# EAGLE library part XCV1600E_FG860 (library xilinx-xcv)
xcv1600e_fg860 edit this description Auto generated by make-symbol-device-package-bsdl.ulp Rev. 26 Source: xcv1600e_fg860.bsd
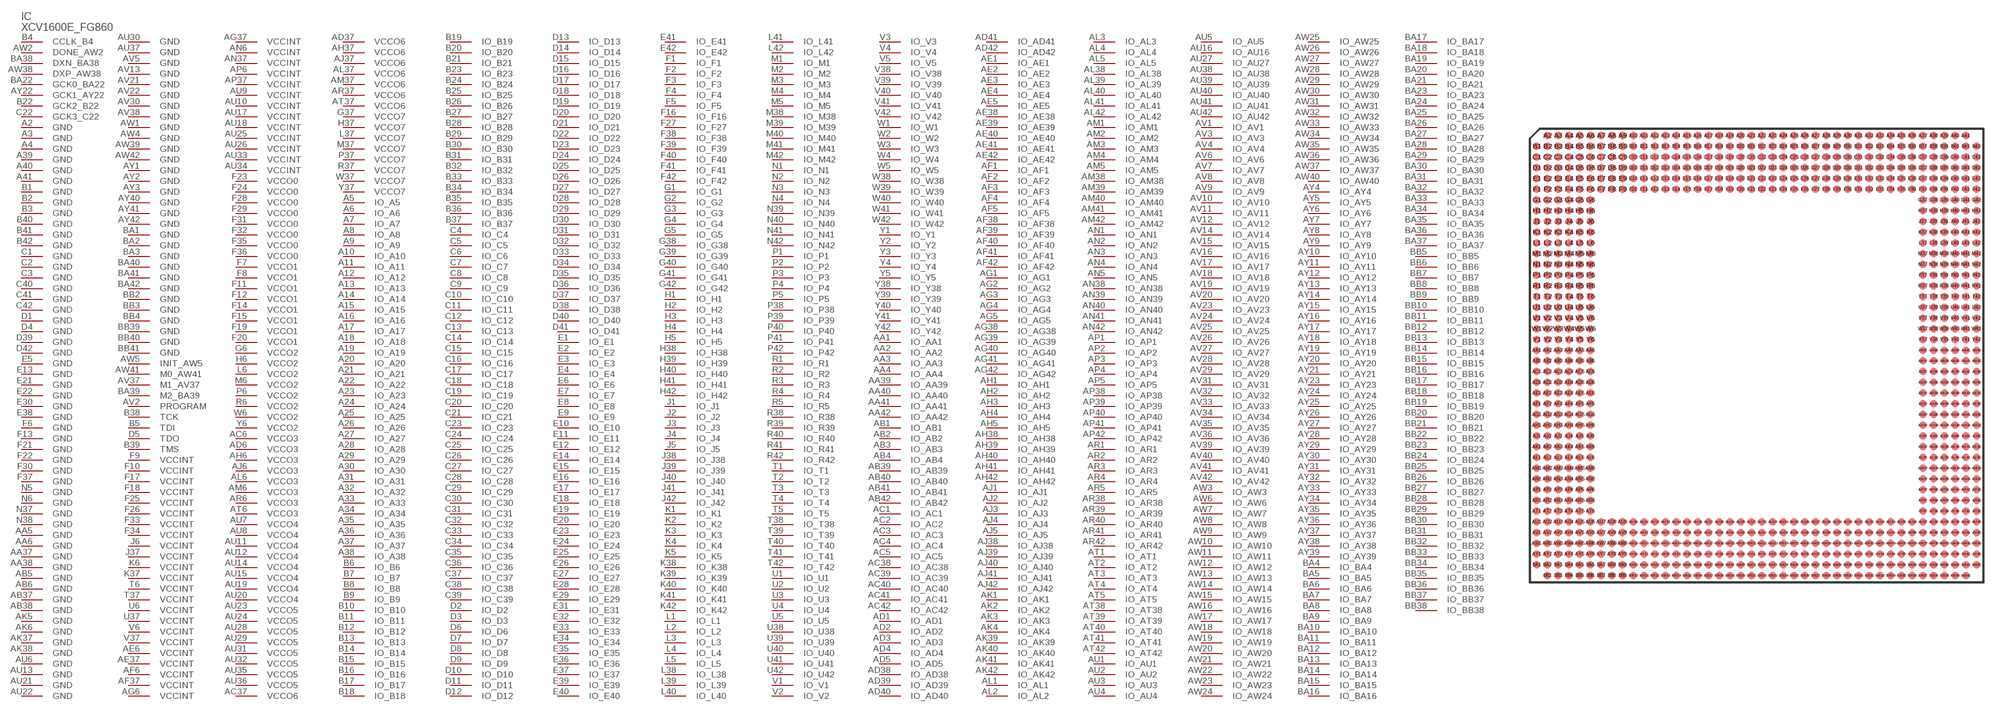
[diagram p42: symbol with the pads of FG860; footprint FG860]

Designator prefix IC

## XCV1600E_FG860  [FG860]
A2  GND  pwr
A3  GND  pwr
A4  GND  pwr
A5  IO_A5
A6  IO_A6
A7  IO_A7
A8  IO_A8
A9  IO_A9
A10  IO_A10
A11  IO_A11
A12  IO_A12
A13  IO_A13
A14  IO_A14
A15  IO_A15
A16  IO_A16
A17  IO_A17
A18  IO_A18
A19  IO_A19
A20  IO_A20
A21  IO_A21
A22  IO_A22
A23  IO_A23
A24  IO_A24
A25  IO_A25
A26  IO_A26
A27  IO_A27
A28  IO_A28
A29  IO_A29
A30  IO_A30
A31  IO_A31
A32  IO_A32
A33  IO_A33
A34  IO_A34
A35  IO_A35
A36  IO_A36
A37  IO_A37
A38  IO_A38
A39  GND  pwr
A40  GND  pwr
A41  GND  pwr
AA1  IO_AA1
AA2  IO_AA2
AA3  IO_AA3
AA4  IO_AA4
AA5  GND  pwr
AA6  GND  pwr
AA37  GND  pwr
AA38  GND  pwr
AA39  IO_AA39
AA40  IO_AA40
AA41  IO_AA41
AA42  IO_AA42
AB1  IO_AB1
AB2  IO_AB2
AB3  IO_AB3
AB4  IO_AB4
AB5  GND  pwr
AB6  GND  pwr
AB37  GND  pwr
AB38  GND  pwr
AB39  IO_AB39
AB40  IO_AB40
AB41  IO_AB41
AB42  IO_AB42
AC1  IO_AC1
AC2  IO_AC2
AC3  IO_AC3
AC4  IO_AC4
AC5  IO_AC5
AC6  VCCO3  pwr
AC37  VCCO6  pwr
AC38  IO_AC38
AC39  IO_AC39
AC40  IO_AC40
AC41  IO_AC41
AC42  IO_AC42
AD1  IO_AD1
AD2  IO_AD2
AD3  IO_AD3
AD4  IO_AD4
AD5  IO_AD5
AD6  VCCO3  pwr
AD37  VCCO6  pwr
AD38  IO_AD38
AD39  IO_AD39
AD40  IO_AD40
AD41  IO_AD41
AD42  IO_AD42
AE1  IO_AE1
AE2  IO_AE2
AE3  IO_AE3
AE4  IO_AE4
AE5  IO_AE5
AE6  VCCINT  pwr
AE37  VCCINT  pwr
AE38  IO_AE38
AE39  IO_AE39
AE40  IO_AE40
AE41  IO_AE41
AE42  IO_AE42
AF1  IO_AF1
AF2  IO_AF2
AF3  IO_AF3
AF4  IO_AF4
AF5  IO_AF5
AF6  VCCINT  pwr
AF37  VCCINT  pwr
AF38  IO_AF38
AF39  IO_AF39
AF40  IO_AF40
AF41  IO_AF41
AF42  IO_AF42
AG1  IO_AG1
AG2  IO_AG2
AG3  IO_AG3
AG4  IO_AG4
AG5  IO_AG5
AG6  VCCINT  pwr
AG37  VCCINT  pwr
AG38  IO_AG38
AG39  IO_AG39
AG40  IO_AG40
AG41  IO_AG41
AG42  IO_AG42
AH1  IO_AH1
AH2  IO_AH2
AH3  IO_AH3
AH4  IO_AH4
AH5  IO_AH5
AH6  VCCO3  pwr
AH37  VCCO6  pwr
AH38  IO_AH38
AH39  IO_AH39
AH40  IO_AH40
AH41  IO_AH41
AH42  IO_AH42
AJ1  IO_AJ1
AJ2  IO_AJ2
AJ3  IO_AJ3
AJ4  IO_AJ4
AJ5  IO_AJ5
AJ6  VCCO3  pwr
AJ37  VCCO6  pwr
AJ38  IO_AJ38
AJ39  IO_AJ39
AJ40  IO_AJ40
AJ41  IO_AJ41
AJ42  IO_AJ42
AK1  IO_AK1
AK2  IO_AK2
AK3  IO_AK3
AK4  IO_AK4
AK5  GND  pwr
AK6  GND  pwr
AK37  GND  pwr
AK38  GND  pwr
AK39  IO_AK39
AK40  IO_AK40
AK41  IO_AK41
AK42  IO_AK42
AL1  IO_AL1
AL2  IO_AL2
AL3  IO_AL3
AL4  IO_AL4
AL5  IO_AL5
AL6  VCCO3  pwr
AL37  VCCO6  pwr
AL38  IO_AL38
AL39  IO_AL39
AL40  IO_AL40
AL41  IO_AL41
AL42  IO_AL42
AM1  IO_AM1
AM2  IO_AM2
AM3  IO_AM3
AM4  IO_AM4
AM5  IO_AM5
AM6  VCCO3  pwr
AM37  VCCO6  pwr
AM38  IO_AM38
AM39  IO_AM39
AM40  IO_AM40
AM41  IO_AM41
AM42  IO_AM42
AN1  IO_AN1
AN2  IO_AN2
AN3  IO_AN3
AN4  IO_AN4
AN5  IO_AN5
AN6  VCCINT  pwr
AN37  VCCINT  pwr
AN38  IO_AN38
AN39  IO_AN39
AN40  IO_AN40
AN41  IO_AN41
AN42  IO_AN42
AP1  IO_AP1
AP2  IO_AP2
AP3  IO_AP3
AP4  IO_AP4
AP5  IO_AP5
AP6  VCCINT  pwr
AP37  VCCINT  pwr
AP38  IO_AP38
AP39  IO_AP39
AP40  IO_AP40
AP41  IO_AP41
AP42  IO_AP42
AR1  IO_AR1
AR2  IO_AR2
AR3  IO_AR3
AR4  IO_AR4
AR5  IO_AR5
AR6  VCCO3  pwr
AR37  VCCO6  pwr
AR38  IO_AR38
AR39  IO_AR39
AR40  IO_AR40
AR41  IO_AR41
AR42  IO_AR42
AT1  IO_AT1
AT2  IO_AT2
AT3  IO_AT3
AT4  IO_AT4
AT5  IO_AT5
AT6  VCCO3  pwr
AT37  VCCO6  pwr
AT38  IO_AT38
AT39  IO_AT39
AT40  IO_AT40
AT41  IO_AT41
AT42  IO_AT42
AU1  IO_AU1
AU2  IO_AU2
AU3  IO_AU3
AU4  IO_AU4
AU5  IO_AU5
AU6  GND  pwr
AU7  VCCO4  pwr
AU8  VCCO4  pwr
AU9  VCCINT  pwr
AU10  VCCINT  pwr
AU11  VCCO4  pwr
AU12  VCCO4  pwr
AU13  GND  pwr
AU14  VCCO4  pwr
AU15  VCCO4  pwr
AU16  IO_AU16
AU17  VCCINT  pwr
AU18  VCCINT  pwr
AU19  VCCO4  pwr
AU20  VCCO4  pwr
AU21  GND  pwr
AU22  GND  pwr
AU23  VCCO5  pwr
AU24  VCCO5  pwr
AU25  VCCINT  pwr
AU26  VCCINT  pwr
AU27  IO_AU27
AU28  VCCO5  pwr
AU29  VCCO5  pwr
AU30  GND  pwr
AU31  VCCO5  pwr
AU32  VCCO5  pwr
AU33  VCCINT  pwr
AU34  VCCINT  pwr
AU35  VCCO5  pwr
AU36  VCCO5  pwr
AU37  GND  pwr
AU38  IO_AU38
AU39  IO_AU39
AU40  IO_AU40
AU41  IO_AU41
AU42  IO_AU42
AV1  IO_AV1
AV2  PROGRAM  in
AV3  IO_AV3
AV4  IO_AV4
AV5  GND  pwr
AV6  IO_AV6
AV7  IO_AV7
AV8  IO_AV8
AV9  IO_AV9
AV10  IO_AV10
AV11  IO_AV11
AV12  IO_AV12
AV13  GND  pwr
AV14  IO_AV14
AV15  IO_AV15
AV16  IO_AV16
AV17  IO_AV17
AV18  IO_AV18
AV19  IO_AV19
AV20  IO_AV20
AV21  GND  pwr
AV22  GND  pwr
AV23  IO_AV23
AV24  IO_AV24
AV25  IO_AV25
AV26  IO_AV26
AV27  IO_AV27
AV28  IO_AV28
AV29  IO_AV29
AV30  GND  pwr
AV31  IO_AV31
AV32  IO_AV32
AV33  IO_AV33
AV34  IO_AV34
AV35  IO_AV35
AV36  IO_AV36
AV37  M1_AV37  in
AV38  GND  pwr
AV39  IO_AV39
AV40  IO_AV40
AV41  IO_AV41
AV42  IO_AV42
AW1  GND  pwr
AW2  DONE_AW2
AW3  IO_AW3
AW4  GND  pwr
AW5  INIT_AW5
AW6  IO_AW6
AW7  IO_AW7
AW8  IO_AW8
AW9  IO_AW9
AW10  IO_AW10
AW11  IO_AW11
AW12  IO_AW12
AW13  IO_AW13
AW14  IO_AW14
AW15  IO_AW15
AW16  IO_AW16
AW17  IO_AW17
AW18  IO_AW18
AW19  IO_AW19
AW20  IO_AW20
AW21  IO_AW21
AW22  IO_AW22
AW23  IO_AW23
AW24  IO_AW24
AW25  IO_AW25
AW26  IO_AW26
AW27  IO_AW27
AW28  IO_AW28
AW29  IO_AW29
AW30  IO_AW30
AW31  IO_AW31
AW32  IO_AW32
AW33  IO_AW33
AW34  IO_AW34
AW35  IO_AW35
AW36  IO_AW36
AW37  IO_AW37
AW38  DXP_AW38  pas
AW39  GND  pwr
AW40  IO_AW40
AW41  M0_AW41  in
AW42  GND  pwr
AY1  GND  pwr
AY2  GND  pwr
AY3  GND  pwr
AY4  IO_AY4
AY5  IO_AY5
AY6  IO_AY6
AY7  IO_AY7
AY8  IO_AY8
AY9  IO_AY9
AY10  IO_AY10
AY11  IO_AY11
AY12  IO_AY12
AY13  IO_AY13
AY14  IO_AY14
AY15  IO_AY15
AY16  IO_AY16
AY17  IO_AY17
AY18  IO_AY18
AY19  IO_AY19
AY20  IO_AY20
AY21  IO_AY21
AY22  GCK1_AY22  in
AY23  IO_AY23
AY24  IO_AY24
AY25  IO_AY25
AY26  IO_AY26
AY27  IO_AY27
AY28  IO_AY28
AY29  IO_AY29
AY30  IO_AY30
AY31  IO_AY31
AY32  IO_AY32
AY33  IO_AY33
AY34  IO_AY34
AY35  IO_AY35
AY36  IO_AY36
AY37  IO_AY37
AY38  IO_AY38
AY39  IO_AY39
AY40  GND  pwr
AY41  GND  pwr
AY42  GND  pwr
B1  GND  pwr
B2  GND  pwr
B3  GND  pwr
B4  CCLK_B4
B5  TDI  in
B6  IO_B6
B7  IO_B7
B8  IO_B8
B9  IO_B9
B10  IO_B10
B11  IO_B11
B12  IO_B12
B13  IO_B13
B14  IO_B14
B15  IO_B15
B16  IO_B16
B17  IO_B17
B18  IO_B18
B19  IO_B19
B20  IO_B20
B21  IO_B21
B22  GCK2_B22  in
B23  IO_B23
B24  IO_B24
B25  IO_B25
B26  IO_B26
B27  IO_B27
B28  IO_B28
B29  IO_B29
B30  IO_B30
B31  IO_B31
B32  IO_B32
B33  IO_B33
B34  IO_B34
B35  IO_B35
B36  IO_B36
B37  IO_B37
B38  TCK  in
B39  TMS  in
B40  GND  pwr
B41  GND  pwr
B42  GND  pwr
BA1  GND  pwr
BA2  GND  pwr
BA3  GND  pwr
BA4  IO_BA4
BA5  IO_BA5
BA6  IO_BA6
BA7  IO_BA7
BA8  IO_BA8
BA9  IO_BA9
BA10  IO_BA10
BA11  IO_BA11
BA12  IO_BA12
BA13  IO_BA13
BA14  IO_BA14
BA15  IO_BA15
BA16  IO_BA16
BA17  IO_BA17
BA18  IO_BA18
BA19  IO_BA19
BA20  IO_BA20
BA21  IO_BA21
BA22  GCK0_BA22  in
BA23  IO_BA23
BA24  IO_BA24
BA25  IO_BA25
BA26  IO_BA26
BA27  IO_BA27
BA28  IO_BA28
BA29  IO_BA29
BA30  IO_BA30
BA31  IO_BA31
BA32  IO_BA32
BA33  IO_BA33
BA34  IO_BA34
BA35  IO_BA35
BA36  IO_BA36
BA37  IO_BA37
BA38  DXN_BA38  pas
BA39  M2_BA39  in
BA40  GND  pwr
BA41  GND  pwr
BA42  GND  pwr
BB2  GND  pwr
BB3  GND  pwr
BB4  GND  pwr
BB5  IO_BB5
BB6  IO_BB6
BB7  IO_BB7
BB8  IO_BB8
BB9  IO_BB9
BB10  IO_BB10
BB11  IO_BB11
BB12  IO_BB12
BB13  IO_BB13
BB14  IO_BB14
BB15  IO_BB15
BB16  IO_BB16
BB17  IO_BB17
BB18  IO_BB18
BB19  IO_BB19
BB20  IO_BB20
BB21  IO_BB21
BB22  IO_BB22
BB23  IO_BB23
BB24  IO_BB24
BB25  IO_BB25
BB26  IO_BB26
BB27  IO_BB27
BB28  IO_BB28
BB29  IO_BB29
BB30  IO_BB30
BB31  IO_BB31
BB32  IO_BB32
BB33  IO_BB33
BB34  IO_BB34
BB35  IO_BB35
BB36  IO_BB36
BB37  IO_BB37
BB38  IO_BB38
BB39  GND  pwr
BB40  GND  pwr
BB41  GND  pwr
C1  GND  pwr
C2  GND  pwr
C3  GND  pwr
C4  IO_C4
C5  IO_C5
C6  IO_C6
C7  IO_C7
C8  IO_C8
C9  IO_C9
C10  IO_C10
C11  IO_C11
C12  IO_C12
C13  IO_C13
C14  IO_C14
C15  IO_C15
C16  IO_C16
C17  IO_C17
C18  IO_C18
C19  IO_C19
C20  IO_C20
C21  IO_C21
C22  GCK3_C22  in
C23  IO_C23
C24  IO_C24
C25  IO_C25
C26  IO_C26
C27  IO_C27
C28  IO_C28
C29  IO_C29
C30  IO_C30
C31  IO_C31
C32  IO_C32
C33  IO_C33
C34  IO_C34
C35  IO_C35
C36  IO_C36
C37  IO_C37
C38  IO_C38
C39  IO_C39
C40  GND  pwr
C41  GND  pwr
C42  GND  pwr
D1  GND  pwr
D2  IO_D2
D3  IO_D3
D4  GND  pwr
D5  TDO  out
D6  IO_D6
D7  IO_D7
D8  IO_D8
D9  IO_D9
D10  IO_D10
D11  IO_D11
D12  IO_D12
D13  IO_D13
D14  IO_D14
D15  IO_D15
D16  IO_D16
D17  IO_D17
D18  IO_D18
D19  IO_D19
D20  IO_D20
D21  IO_D21
D22  IO_D22
D23  IO_D23
D24  IO_D24
D25  IO_D25
D26  IO_D26
D27  IO_D27
D28  IO_D28
D29  IO_D29
D30  IO_D30
D31  IO_D31
D32  IO_D32
D33  IO_D33
D34  IO_D34
D35  IO_D35
D36  IO_D36
D37  IO_D37
D38  IO_D38
D39  GND  pwr
D40  IO_D40
D41  IO_D41
D42  GND  pwr
E1  IO_E1
E2  IO_E2
E3  IO_E3
E4  IO_E4
E5  GND  pwr
E6  IO_E6
E7  IO_E7
E8  IO_E8
E9  IO_E9
E10  IO_E10
E11  IO_E11
E12  IO_E12
E13  GND  pwr
E14  IO_E14
E15  IO_E15
E16  IO_E16
E17  IO_E17
E18  IO_E18
E19  IO_E19
E20  IO_E20
E21  GND  pwr
E22  GND  pwr
E23  IO_E23
E24  IO_E24
E25  IO_E25
E26  IO_E26
E27  IO_E27
E28  IO_E28
E29  IO_E29
E30  GND  pwr
E31  IO_E31
E32  IO_E32
E33  IO_E33
E34  IO_E34
E35  IO_E35
E36  IO_E36
E37  IO_E37
E38  GND  pwr
E39  IO_E39
E40  IO_E40
E41  IO_E41
E42  IO_E42
F1  IO_F1
F2  IO_F2
F3  IO_F3
F4  IO_F4
F5  IO_F5
F6  GND  pwr
F7  VCCO1  pwr
F8  VCCO1  pwr
F9  VCCINT  pwr
F10  VCCINT  pwr
F11  VCCO1  pwr
F12  VCCO1  pwr
F13  GND  pwr
F14  VCCO1  pwr
F15  VCCO1  pwr
F16  IO_F16
F17  VCCINT  pwr
F18  VCCINT  pwr
F19  VCCO1  pwr
F20  VCCO1  pwr
F21  GND  pwr
F22  GND  pwr
F23  VCCO0  pwr
F24  VCCO0  pwr
F25  VCCINT  pwr
F26  VCCINT  pwr
F27  IO_F27
F28  VCCO0  pwr
F29  VCCO0  pwr
F30  GND  pwr
F31  VCCO0  pwr
F32  VCCO0  pwr
F33  VCCINT  pwr
F34  VCCINT  pwr
F35  VCCO0  pwr
F36  VCCO0  pwr
F37  GND  pwr
F38  IO_F38
F39  IO_F39
F40  IO_F40
F41  IO_F41
F42  IO_F42
G1  IO_G1
G2  IO_G2
G3  IO_G3
G4  IO_G4
G5  IO_G5
G6  VCCO2  pwr
G37  VCCO7  pwr
G38  IO_G38
G39  IO_G39
G40  IO_G40
G41  IO_G41
G42  IO_G42
H1  IO_H1
H2  IO_H2
H3  IO_H3
H4  IO_H4
H5  IO_H5
H6  VCCO2  pwr
H37  VCCO7  pwr
H38  IO_H38
H39  IO_H39
H40  IO_H40
H41  IO_H41
H42  IO_H42
J1  IO_J1
J2  IO_J2
J3  IO_J3
J4  IO_J4
J5  IO_J5
J6  VCCINT  pwr
J37  VCCINT  pwr
J38  IO_J38
J39  IO_J39
J40  IO_J40
J41  IO_J41
J42  IO_J42
K1  IO_K1
K2  IO_K2
K3  IO_K3
K4  IO_K4
K5  IO_K5
K6  VCCINT  pwr
K37  VCCINT  pwr
K38  IO_K38
K39  IO_K39
K40  IO_K40
K41  IO_K41
K42  IO_K42
L1  IO_L1
L2  IO_L2
L3  IO_L3
L4  IO_L4
L5  IO_L5
L6  VCCO2  pwr
L37  VCCO7  pwr
L38  IO_L38
L39  IO_L39
L40  IO_L40
L41  IO_L41
L42  IO_L42
M1  IO_M1
M2  IO_M2
M3  IO_M3
M4  IO_M4
M5  IO_M5
M6  VCCO2  pwr
M37  VCCO7  pwr
M38  IO_M38
M39  IO_M39
M40  IO_M40
M41  IO_M41
M42  IO_M42
N1  IO_N1
N2  IO_N2
N3  IO_N3
N4  IO_N4
N5  GND  pwr
N6  GND  pwr
N37  GND  pwr
N38  GND  pwr
N39  IO_N39
N40  IO_N40
N41  IO_N41
N42  IO_N42
P1  IO_P1
P2  IO_P2
P3  IO_P3
P4  IO_P4
P5  IO_P5
P6  VCCO2  pwr
P37  VCCO7  pwr
P38  IO_P38
P39  IO_P39
P40  IO_P40
P41  IO_P41
P42  IO_P42
R1  IO_R1
R2  IO_R2
R3  IO_R3
R4  IO_R4
R5  IO_R5
R6  VCCO2  pwr
R37  VCCO7  pwr
R38  IO_R38
R39  IO_R39
R40  IO_R40
R41  IO_R41
R42  IO_R42
T1  IO_T1
T2  IO_T2
T3  IO_T3
T4  IO_T4
T5  IO_T5
T6  VCCINT  pwr
T37  VCCINT  pwr
T38  IO_T38
T39  IO_T39
T40  IO_T40
T41  IO_T41
T42  IO_T42
U1  IO_U1
U2  IO_U2
U3  IO_U3
U4  IO_U4
U5  IO_U5
U6  VCCINT  pwr
U37  VCCINT  pwr
U38  IO_U38
U39  IO_U39
U40  IO_U40
U41  IO_U41
U42  IO_U42
V1  IO_V1
V2  IO_V2
V3  IO_V3
V4  IO_V4
V5  IO_V5
V6  VCCINT  pwr
V37  VCCINT  pwr
V38  IO_V38
V39  IO_V39
V40  IO_V40
V41  IO_V41
V42  IO_V42
W1  IO_W1
W2  IO_W2
W3  IO_W3
W4  IO_W4
W5  IO_W5
W6  VCCO2  pwr
W37  VCCO7  pwr
W38  IO_W38
W39  IO_W39
W40  IO_W40
W41  IO_W41
W42  IO_W42
Y1  IO_Y1
Y2  IO_Y2
Y3  IO_Y3
Y4  IO_Y4
Y5  IO_Y5
Y6  VCCO2  pwr
Y37  VCCO7  pwr
Y38  IO_Y38
Y39  IO_Y39
Y40  IO_Y40
Y41  IO_Y41
Y42  IO_Y42

## Footprint FG860 (pad centres in mm)
xcv1000e_fg860_1532 edit this description Auto generated by make-symbol-device-package-bsdl.ulp Rev. 26 Source: xcv1000e_fg860_1532.bsd
smd 0.7 x 0.7: A2 -19.5,20.5; A3 -18.5,20.5; A4 -17.5,20.5; A5 -16.5,20.5; A6 -15.5,20.5; A7 -14.5,20.5; A8 -13.5,20.5; A9 -12.5,20.5; A10 -11.5,20.5; A11 -10.5,20.5; A12 -9.5,20.5; A13 -8.5,20.5; A14 -7.5,20.5; A15 -6.5,20.5; A16 -5.5,20.5; A17 -4.5,20.5; A18 -3.5,20.5; A19 -2.5,20.5; A20 -1.5,20.5; A21 -0.5,20.5; A22 0.5,20.5; A23 1.5,20.5; A24 2.5,20.5; A25 3.5,20.5; A26 4.5,20.5; A27 5.5,20.5; A28 6.5,20.5; A29 7.5,20.5; A30 8.5,20.5; A31 9.5,20.5; A32 10.5,20.5; A33 11.5,20.5; A34 12.5,20.5; A35 13.5,20.5; A36 14.5,20.5; A37 15.5,20.5; A38 16.5,20.5; A39 17.5,20.5; A40 18.5,20.5; A41 19.5,20.5; AA1 -20.5,0.5; AA2 -19.5,0.5; AA3 -18.5,0.5; AA4 -17.5,0.5; AA5 -16.5,0.5; AA6 -15.5,0.5; AA37 15.5,0.5; AA38 16.5,0.5; AA39 17.5,0.5; AA40 18.5,0.5; AA41 19.5,0.5; AA42 20.5,0.5; AB1 -20.5,-0.5; AB2 -19.5,-0.5; AB3 -18.5,-0.5; AB4 -17.5,-0.5; AB5 -16.5,-0.5; AB6 -15.5,-0.5; AB37 15.5,-0.5; AB38 16.5,-0.5; AB39 17.5,-0.5; AB40 18.5,-0.5; AB41 19.5,-0.5; AB42 20.5,-0.5; AC1 -20.5,-1.5; AC2 -19.5,-1.5; AC3 -18.5,-1.5; AC4 -17.5,-1.5; AC5 -16.5,-1.5; AC6 -15.5,-1.5; AC37 15.5,-1.5; AC38 16.5,-1.5; AC39 17.5,-1.5; AC40 18.5,-1.5; AC41 19.5,-1.5; AC42 20.5,-1.5; AD1 -20.5,-2.5; AD2 -19.5,-2.5; AD3 -18.5,-2.5; AD4 -17.5,-2.5; AD5 -16.5,-2.5; AD6 -15.5,-2.5; AD37 15.5,-2.5; AD38 16.5,-2.5; AD39 17.5,-2.5; AD40 18.5,-2.5; AD41 19.5,-2.5; AD42 20.5,-2.5; AE1 -20.5,-3.5; AE2 -19.5,-3.5; AE3 -18.5,-3.5; AE4 -17.5,-3.5; AE5 -16.5,-3.5; AE6 -15.5,-3.5; AE37 15.5,-3.5; AE38 16.5,-3.5; AE39 17.5,-3.5; AE40 18.5,-3.5; AE41 19.5,-3.5; AE42 20.5,-3.5; AF1 -20.5,-4.5; AF2 -19.5,-4.5; AF3 -18.5,-4.5; AF4 -17.5,-4.5; AF5 -16.5,-4.5; AF6 -15.5,-4.5; AF37 15.5,-4.5; AF38 16.5,-4.5; AF39 17.5,-4.5; AF40 18.5,-4.5; AF41 19.5,-4.5; AF42 20.5,-4.5; AG1 -20.5,-5.5; AG2 -19.5,-5.5; AG3 -18.5,-5.5; AG4 -17.5,-5.5; AG5 -16.5,-5.5; AG6 -15.5,-5.5; AG37 15.5,-5.5; AG38 16.5,-5.5; AG39 17.5,-5.5; AG40 18.5,-5.5; AG41 19.5,-5.5; AG42 20.5,-5.5; AH1 -20.5,-6.5; AH2 -19.5,-6.5; AH3 -18.5,-6.5; AH4 -17.5,-6.5; AH5 -16.5,-6.5; AH6 -15.5,-6.5; AH37 15.5,-6.5; AH38 16.5,-6.5; AH39 17.5,-6.5; AH40 18.5,-6.5; AH41 19.5,-6.5; AH42 20.5,-6.5; AJ1 -20.5,-7.5; AJ2 -19.5,-7.5; AJ3 -18.5,-7.5; AJ4 -17.5,-7.5; AJ5 -16.5,-7.5; AJ6 -15.5,-7.5; AJ37 15.5,-7.5; AJ38 16.5,-7.5; AJ39 17.5,-7.5; AJ40 18.5,-7.5; AJ41 19.5,-7.5; AJ42 20.5,-7.5; AK1 -20.5,-8.5; AK2 -19.5,-8.5; AK3 -18.5,-8.5; AK4 -17.5,-8.5; AK5 -16.5,-8.5; AK6 -15.5,-8.5; AK37 15.5,-8.5; AK38 16.5,-8.5; AK39 17.5,-8.5; AK40 18.5,-8.5; AK41 19.5,-8.5; AK42 20.5,-8.5; AL1 -20.5,-9.5; AL2 -19.5,-9.5; AL3 -18.5,-9.5; AL4 -17.5,-9.5; AL5 -16.5,-9.5; AL6 -15.5,-9.5; AL37 15.5,-9.5; AL38 16.5,-9.5; AL39 17.5,-9.5; AL40 18.5,-9.5; AL41 19.5,-9.5; AL42 20.5,-9.5; AM1 -20.5,-10.5; AM2 -19.5,-10.5; AM3 -18.5,-10.5; AM4 -17.5,-10.5; AM5 -16.5,-10.5; AM6 -15.5,-10.5; AM37 15.5,-10.5; AM38 16.5,-10.5; AM39 17.5,-10.5; AM40 18.5,-10.5; AM41 19.5,-10.5; AM42 20.5,-10.5; AN1 -20.5,-11.5; AN2 -19.5,-11.5; AN3 -18.5,-11.5; AN4 -17.5,-11.5; AN5 -16.5,-11.5; AN6 -15.5,-11.5; AN37 15.5,-11.5; AN38 16.5,-11.5; AN39 17.5,-11.5; AN40 18.5,-11.5; AN41 19.5,-11.5; AN42 20.5,-11.5; AP1 -20.5,-12.5; AP2 -19.5,-12.5; AP3 -18.5,-12.5; AP4 -17.5,-12.5; AP5 -16.5,-12.5; AP6 -15.5,-12.5; AP37 15.5,-12.5; AP38 16.5,-12.5; AP39 17.5,-12.5; AP40 18.5,-12.5; AP41 19.5,-12.5; AP42 20.5,-12.5; AR1 -20.5,-13.5; AR2 -19.5,-13.5; AR3 -18.5,-13.5; AR4 -17.5,-13.5; AR5 -16.5,-13.5; AR6 -15.5,-13.5; AR37 15.5,-13.5; AR38 16.5,-13.5; AR39 17.5,-13.5; AR40 18.5,-13.5; AR41 19.5,-13.5; AR42 20.5,-13.5; AT1 -20.5,-14.5; AT2 -19.5,-14.5; AT3 -18.5,-14.5; AT4 -17.5,-14.5; AT5 -16.5,-14.5; AT6 -15.5,-14.5; AT37 15.5,-14.5; AT38 16.5,-14.5; AT39 17.5,-14.5; AT40 18.5,-14.5; AT41 19.5,-14.5; AT42 20.5,-14.5; AU1 -20.5,-15.5; AU2 -19.5,-15.5; AU3 -18.5,-15.5; AU4 -17.5,-15.5; AU5 -16.5,-15.5; AU6 -15.5,-15.5; AU7 -14.5,-15.5; AU8 -13.5,-15.5; AU9 -12.5,-15.5; AU10 -11.5,-15.5; AU11 -10.5,-15.5; AU12 -9.5,-15.5; AU13 -8.5,-15.5; AU14 -7.5,-15.5; AU15 -6.5,-15.5; AU16 -5.5,-15.5; AU17 -4.5,-15.5; AU18 -3.5,-15.5; AU19 -2.5,-15.5; AU20 -1.5,-15.5; AU21 -0.5,-15.5; AU22 0.5,-15.5; AU23 1.5,-15.5; AU24 2.5,-15.5; AU25 3.5,-15.5; AU26 4.5,-15.5; AU27 5.5,-15.5; AU28 6.5,-15.5; AU29 7.5,-15.5; AU30 8.5,-15.5; AU31 9.5,-15.5; AU32 10.5,-15.5; AU33 11.5,-15.5; AU34 12.5,-15.5; AU35 13.5,-15.5; AU36 14.5,-15.5; AU37 15.5,-15.5; AU38 16.5,-15.5; AU39 17.5,-15.5; AU40 18.5,-15.5; AU41 19.5,-15.5; AU42 20.5,-15.5; AV1 -20.5,-16.5; AV2 -19.5,-16.5; AV3 -18.5,-16.5; AV4 -17.5,-16.5; AV5 -16.5,-16.5; AV6 -15.5,-16.5; AV7 -14.5,-16.5; AV8 -13.5,-16.5; AV9 -12.5,-16.5; AV10 -11.5,-16.5; AV11 -10.5,-16.5; AV12 -9.5,-16.5; AV13 -8.5,-16.5; AV14 -7.5,-16.5; AV15 -6.5,-16.5; AV16 -5.5,-16.5; AV17 -4.5,-16.5; AV18 -3.5,-16.5; AV19 -2.5,-16.5; AV20 -1.5,-16.5; AV21 -0.5,-16.5; AV22 0.5,-16.5; AV23 1.5,-16.5; AV24 2.5,-16.5; AV25 3.5,-16.5; AV26 4.5,-16.5; AV27 5.5,-16.5; AV28 6.5,-16.5; AV29 7.5,-16.5; AV30 8.5,-16.5; AV31 9.5,-16.5; AV32 10.5,-16.5; AV33 11.5,-16.5; AV34 12.5,-16.5; AV35 13.5,-16.5; AV36 14.5,-16.5; AV37 15.5,-16.5; AV38 16.5,-16.5; AV39 17.5,-16.5; AV40 18.5,-16.5; AV41 19.5,-16.5; AV42 20.5,-16.5; AW1 -20.5,-17.5; AW2 -19.5,-17.5; AW3 -18.5,-17.5; AW4 -17.5,-17.5; AW5 -16.5,-17.5; AW6 -15.5,-17.5; AW7 -14.5,-17.5; AW8 -13.5,-17.5; AW9 -12.5,-17.5; AW10 -11.5,-17.5; AW11 -10.5,-17.5; AW12 -9.5,-17.5; AW13 -8.5,-17.5; AW14 -7.5,-17.5; AW15 -6.5,-17.5; AW16 -5.5,-17.5; AW17 -4.5,-17.5; AW18 -3.5,-17.5; AW19 -2.5,-17.5; AW20 -1.5,-17.5; AW21 -0.5,-17.5; AW22 0.5,-17.5; AW23 1.5,-17.5; AW24 2.5,-17.5; AW25 3.5,-17.5; AW26 4.5,-17.5; AW27 5.5,-17.5; AW28 6.5,-17.5; AW29 7.5,-17.5; AW30 8.5,-17.5; AW31 9.5,-17.5; AW32 10.5,-17.5; AW33 11.5,-17.5; AW34 12.5,-17.5; AW35 13.5,-17.5; AW36 14.5,-17.5; AW37 15.5,-17.5; AW38 16.5,-17.5; AW39 17.5,-17.5; AW40 18.5,-17.5; AW41 19.5,-17.5; AW42 20.5,-17.5; AY1 -20.5,-18.5; AY2 -19.5,-18.5; AY3 -18.5,-18.5; AY4 -17.5,-18.5; AY5 -16.5,-18.5; AY6 -15.5,-18.5; AY7 -14.5,-18.5; AY8 -13.5,-18.5; AY9 -12.5,-18.5; AY10 -11.5,-18.5; AY11 -10.5,-18.5; AY12 -9.5,-18.5; AY13 -8.5,-18.5; AY14 -7.5,-18.5; AY15 -6.5,-18.5; AY16 -5.5,-18.5; AY17 -4.5,-18.5; AY18 -3.5,-18.5; AY19 -2.5,-18.5; AY20 -1.5,-18.5; AY21 -0.5,-18.5; AY22 0.5,-18.5; AY23 1.5,-18.5; AY24 2.5,-18.5; AY25 3.5,-18.5; AY26 4.5,-18.5; AY27 5.5,-18.5; AY28 6.5,-18.5; AY29 7.5,-18.5; AY30 8.5,-18.5; AY31 9.5,-18.5; AY32 10.5,-18.5; AY33 11.5,-18.5; AY34 12.5,-18.5; AY35 13.5,-18.5; AY36 14.5,-18.5; AY37 15.5,-18.5; AY38 16.5,-18.5; AY39 17.5,-18.5; AY40 18.5,-18.5; AY41 19.5,-18.5; AY42 20.5,-18.5; B1 -20.5,19.5; B2 -19.5,19.5; B3 -18.5,19.5; B4 -17.5,19.5; B5 -16.5,19.5; B6 -15.5,19.5; B7 -14.5,19.5; B8 -13.5,19.5; B9 -12.5,19.5; B10 -11.5,19.5; B11 -10.5,19.5; B12 -9.5,19.5; B13 -8.5,19.5; B14 -7.5,19.5; B15 -6.5,19.5; B16 -5.5,19.5; B17 -4.5,19.5; B18 -3.5,19.5; B19 -2.5,19.5; B20 -1.5,19.5; B21 -0.5,19.5; B22 0.5,19.5; B23 1.5,19.5; B24 2.5,19.5; B25 3.5,19.5; B26 4.5,19.5; B27 5.5,19.5; B28 6.5,19.5; B29 7.5,19.5; B30 8.5,19.5; B31 9.5,19.5; B32 10.5,19.5; B33 11.5,19.5; B34 12.5,19.5; B35 13.5,19.5; B36 14.5,19.5; B37 15.5,19.5; B38 16.5,19.5; B39 17.5,19.5; B40 18.5,19.5; B41 19.5,19.5; B42 20.5,19.5; BA1 -20.5,-19.5; BA2 -19.5,-19.5; BA3 -18.5,-19.5; BA4 -17.5,-19.5; BA5 -16.5,-19.5; BA6 -15.5,-19.5; BA7 -14.5,-19.5; BA8 -13.5,-19.5; BA9 -12.5,-19.5; BA10 -11.5,-19.5; BA11 -10.5,-19.5; BA12 -9.5,-19.5; BA13 -8.5,-19.5; BA14 -7.5,-19.5; BA15 -6.5,-19.5; BA16 -5.5,-19.5; BA17 -4.5,-19.5; BA18 -3.5,-19.5; BA19 -2.5,-19.5; BA20 -1.5,-19.5; BA21 -0.5,-19.5; BA22 0.5,-19.5; BA23 1.5,-19.5; BA24 2.5,-19.5; BA25 3.5,-19.5; BA26 4.5,-19.5; BA27 5.5,-19.5; BA28 6.5,-19.5; BA29 7.5,-19.5; BA30 8.5,-19.5; BA31 9.5,-19.5; BA32 10.5,-19.5; BA33 11.5,-19.5; BA34 12.5,-19.5; BA35 13.5,-19.5; BA36 14.5,-19.5; BA37 15.5,-19.5; BA38 16.5,-19.5; BA39 17.5,-19.5; BA40 18.5,-19.5; BA41 19.5,-19.5; BA42 20.5,-19.5; BB2 -19.5,-20.5; BB3 -18.5,-20.5; BB4 -17.5,-20.5; BB5 -16.5,-20.5; BB6 -15.5,-20.5; BB7 -14.5,-20.5; BB8 -13.5,-20.5; BB9 -12.5,-20.5; BB10 -11.5,-20.5; BB11 -10.5,-20.5; BB12 -9.5,-20.5; BB13 -8.5,-20.5; BB14 -7.5,-20.5; BB15 -6.5,-20.5; BB16 -5.5,-20.5; BB17 -4.5,-20.5; BB18 -3.5,-20.5; BB19 -2.5,-20.5; BB20 -1.5,-20.5; BB21 -0.5,-20.5; BB22 0.5,-20.5; BB23 1.5,-20.5; BB24 2.5,-20.5; BB25 3.5,-20.5; BB26 4.5,-20.5; BB27 5.5,-20.5; BB28 6.5,-20.5; BB29 7.5,-20.5; BB30 8.5,-20.5; BB31 9.5,-20.5; BB32 10.5,-20.5; BB33 11.5,-20.5; BB34 12.5,-20.5; BB35 13.5,-20.5; BB36 14.5,-20.5; BB37 15.5,-20.5; BB38 16.5,-20.5; BB39 17.5,-20.5; BB40 18.5,-20.5; BB41 19.5,-20.5; C1 -20.5,18.5; C2 -19.5,18.5; C3 -18.5,18.5; C4 -17.5,18.5; C5 -16.5,18.5; C6 -15.5,18.5; C7 -14.5,18.5; C8 -13.5,18.5; C9 -12.5,18.5; C10 -11.5,18.5; C11 -10.5,18.5; C12 -9.5,18.5; C13 -8.5,18.5; C14 -7.5,18.5; C15 -6.5,18.5; C16 -5.5,18.5; C17 -4.5,18.5; C18 -3.5,18.5; C19 -2.5,18.5; C20 -1.5,18.5; C21 -0.5,18.5; C22 0.5,18.5; C23 1.5,18.5; C24 2.5,18.5; C25 3.5,18.5; C26 4.5,18.5; C27 5.5,18.5; C28 6.5,18.5; C29 7.5,18.5; C30 8.5,18.5; C31 9.5,18.5; C32 10.5,18.5; C33 11.5,18.5; C34 12.5,18.5; C35 13.5,18.5; C36 14.5,18.5; C37 15.5,18.5; C38 16.5,18.5; C39 17.5,18.5; C40 18.5,18.5; C41 19.5,18.5; C42 20.5,18.5; D1 -20.5,17.5; D2 -19.5,17.5; D3 -18.5,17.5; D4 -17.5,17.5; D5 -16.5,17.5; D6 -15.5,17.5; D7 -14.5,17.5; D8 -13.5,17.5; D9 -12.5,17.5; D10 -11.5,17.5; D11 -10.5,17.5; D12 -9.5,17.5; D13 -8.5,17.5; D14 -7.5,17.5; D15 -6.5,17.5; D16 -5.5,17.5; D17 -4.5,17.5; D18 -3.5,17.5; D19 -2.5,17.5; D20 -1.5,17.5; D21 -0.5,17.5; D22 0.5,17.5; D23 1.5,17.5; D24 2.5,17.5; D25 3.5,17.5; D26 4.5,17.5; D27 5.5,17.5; D28 6.5,17.5; D29 7.5,17.5; D30 8.5,17.5; D31 9.5,17.5; D32 10.5,17.5; D33 11.5,17.5; D34 12.5,17.5; D35 13.5,17.5; D36 14.5,17.5; D37 15.5,17.5; D38 16.5,17.5; D39 17.5,17.5; D40 18.5,17.5; D41 19.5,17.5; D42 20.5,17.5; E1 -20.5,16.5; E2 -19.5,16.5; E3 -18.5,16.5; E4 -17.5,16.5; E5 -16.5,16.5; E6 -15.5,16.5; E7 -14.5,16.5; E8 -13.5,16.5; E9 -12.5,16.5; E10 -11.5,16.5; E11 -10.5,16.5; E12 -9.5,16.5; E13 -8.5,16.5; E14 -7.5,16.5; E15 -6.5,16.5; E16 -5.5,16.5; E17 -4.5,16.5; E18 -3.5,16.5; E19 -2.5,16.5; E20 -1.5,16.5; E21 -0.5,16.5; E22 0.5,16.5; E23 1.5,16.5; E24 2.5,16.5; E25 3.5,16.5; E26 4.5,16.5; E27 5.5,16.5; E28 6.5,16.5; E29 7.5,16.5; E30 8.5,16.5; E31 9.5,16.5; E32 10.5,16.5; E33 11.5,16.5; E34 12.5,16.5; E35 13.5,16.5; E36 14.5,16.5; E37 15.5,16.5; E38 16.5,16.5; E39 17.5,16.5; E40 18.5,16.5; E41 19.5,16.5; E42 20.5,16.5; F1 -20.5,15.5; F2 -19.5,15.5; F3 -18.5,15.5; F4 -17.5,15.5; F5 -16.5,15.5; F6 -15.5,15.5; F7 -14.5,15.5; F8 -13.5,15.5; F9 -12.5,15.5; F10 -11.5,15.5; F11 -10.5,15.5; F12 -9.5,15.5; F13 -8.5,15.5; F14 -7.5,15.5; F15 -6.5,15.5; F16 -5.5,15.5; F17 -4.5,15.5; F18 -3.5,15.5; F19 -2.5,15.5; F20 -1.5,15.5; F21 -0.5,15.5; F22 0.5,15.5; F23 1.5,15.5; F24 2.5,15.5; F25 3.5,15.5; F26 4.5,15.5; F27 5.5,15.5; F28 6.5,15.5; F29 7.5,15.5; F30 8.5,15.5; F31 9.5,15.5; F32 10.5,15.5; F33 11.5,15.5; F34 12.5,15.5; F35 13.5,15.5; F36 14.5,15.5; F37 15.5,15.5; F38 16.5,15.5; F39 17.5,15.5; F40 18.5,15.5; F41 19.5,15.5; F42 20.5,15.5; G1 -20.5,14.5; G2 -19.5,14.5; G3 -18.5,14.5; G4 -17.5,14.5; G5 -16.5,14.5; G6 -15.5,14.5; G37 15.5,14.5; G38 16.5,14.5; G39 17.5,14.5; G40 18.5,14.5; G41 19.5,14.5; G42 20.5,14.5; H1 -20.5,13.5; H2 -19.5,13.5; H3 -18.5,13.5; H4 -17.5,13.5; H5 -16.5,13.5; H6 -15.5,13.5; H37 15.5,13.5; H38 16.5,13.5; H39 17.5,13.5; H40 18.5,13.5; H41 19.5,13.5; H42 20.5,13.5; J1 -20.5,12.5; J2 -19.5,12.5; J3 -18.5,12.5; J4 -17.5,12.5; J5 -16.5,12.5; J6 -15.5,12.5; J37 15.5,12.5; J38 16.5,12.5; J39 17.5,12.5; J40 18.5,12.5; J41 19.5,12.5; J42 20.5,12.5; K1 -20.5,11.5; K2 -19.5,11.5; K3 -18.5,11.5; K4 -17.5,11.5; K5 -16.5,11.5; K6 -15.5,11.5; K37 15.5,11.5; K38 16.5,11.5; K39 17.5,11.5; K40 18.5,11.5; K41 19.5,11.5; K42 20.5,11.5; L1 -20.5,10.5; L2 -19.5,10.5; L3 -18.5,10.5; L4 -17.5,10.5; L5 -16.5,10.5; L6 -15.5,10.5; L37 15.5,10.5; L38 16.5,10.5; L39 17.5,10.5; L40 18.5,10.5; L41 19.5,10.5; L42 20.5,10.5; M1 -20.5,9.5; M2 -19.5,9.5; M3 -18.5,9.5; M4 -17.5,9.5; M5 -16.5,9.5; M6 -15.5,9.5; M37 15.5,9.5; M38 16.5,9.5; M39 17.5,9.5; M40 18.5,9.5; M41 19.5,9.5; M42 20.5,9.5; N1 -20.5,8.5; N2 -19.5,8.5; N3 -18.5,8.5; N4 -17.5,8.5; N5 -16.5,8.5; N6 -15.5,8.5; N37 15.5,8.5; N38 16.5,8.5; N39 17.5,8.5; N40 18.5,8.5; N41 19.5,8.5; N42 20.5,8.5; P1 -20.5,7.5; P2 -19.5,7.5; P3 -18.5,7.5; P4 -17.5,7.5; P5 -16.5,7.5; P6 -15.5,7.5; P37 15.5,7.5; P38 16.5,7.5; P39 17.5,7.5; P40 18.5,7.5; P41 19.5,7.5; P42 20.5,7.5; R1 -20.5,6.5; R2 -19.5,6.5; R3 -18.5,6.5; R4 -17.5,6.5; R5 -16.5,6.5; R6 -15.5,6.5; R37 15.5,6.5; R38 16.5,6.5; R39 17.5,6.5; R40 18.5,6.5; R41 19.5,6.5; R42 20.5,6.5; T1 -20.5,5.5; T2 -19.5,5.5; T3 -18.5,5.5; T4 -17.5,5.5; T5 -16.5,5.5; T6 -15.5,5.5; T37 15.5,5.5; T38 16.5,5.5; T39 17.5,5.5; T40 18.5,5.5; T41 19.5,5.5; T42 20.5,5.5; U1 -20.5,4.5; U2 -19.5,4.5; U3 -18.5,4.5; U4 -17.5,4.5; U5 -16.5,4.5; U6 -15.5,4.5; U37 15.5,4.5; U38 16.5,4.5; U39 17.5,4.5; U40 18.5,4.5; U41 19.5,4.5; U42 20.5,4.5; V1 -20.5,3.5; V2 -19.5,3.5; V3 -18.5,3.5; V4 -17.5,3.5; V5 -16.5,3.5; V6 -15.5,3.5; V37 15.5,3.5; V38 16.5,3.5; V39 17.5,3.5; V40 18.5,3.5; V41 19.5,3.5; V42 20.5,3.5; W1 -20.5,2.5; W2 -19.5,2.5; W3 -18.5,2.5; W4 -17.5,2.5; W5 -16.5,2.5; W6 -15.5,2.5; W37 15.5,2.5; W38 16.5,2.5; W39 17.5,2.5; W40 18.5,2.5; W41 19.5,2.5; W42 20.5,2.5; Y1 -20.5,1.5; Y2 -19.5,1.5; Y3 -18.5,1.5; Y4 -17.5,1.5; Y5 -16.5,1.5; Y6 -15.5,1.5; Y37 15.5,1.5; Y38 16.5,1.5; Y39 17.5,1.5; Y40 18.5,1.5; Y41 19.5,1.5; Y42 20.5,1.5